# Altium footprint library BOARD_PFC.PcbLib: 1 footprints
Each footprint in its own frame and in the unit in brackets; x right, y up, seen from the top. Pads: shape width x height; smd on the part's side, far side on the other; paste and mask are expansions set on the pad; w line width, h text height; cw(c..) or ccw(c..) is an arc to the next point about the centre after c.
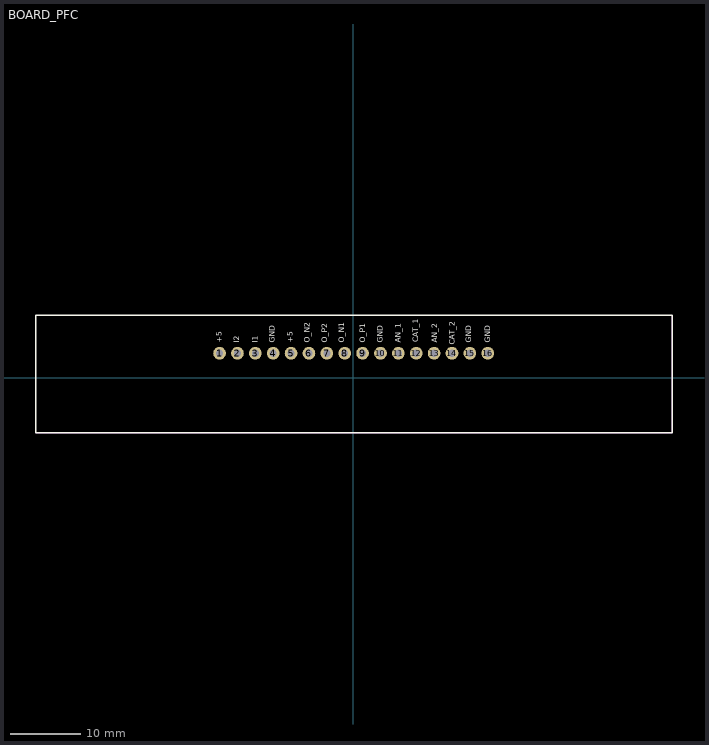
[diagram p0: the footprint, top view; thin cyan lines are the x and y axes]

## BOARD_PFC [mm]
height 0.55
pads (16):
  round 1.8 hole 1: 1(-19,3.5) 2(-16.46,3.5) 3(-13.92,3.5) 4(-11.38,3.5) 5(-8.84,3.5) 6(-6.3,3.5) 7(-3.76,3.5) 8(-1.22,3.5) 9(1.32,3.5) 10(3.86,3.5) 11(6.4,3.5) 12(8.94,3.5) 13(11.48,3.5) 14(14.02,3.5) 15(16.56,3.5) 16(19.1,3.5)
Top Overlay:
  lines w0.2: -45.1,-7.8 -45.1,8.9 45.3,8.9 45.3,-7.8 -45.1,-7.8
  text "I2" at -16.189,4.969 h0.8
  text "+5" at -18.663,4.969 h0.8
  text "+5" at -8.613,4.969 h0.8
  text "GND" at -11.139,4.969 h0.8
  text "GND" at 16.75,4.969 h0.8
  text "GND" at 19.425,4.969 h0.8
  text "GND" at 4.161,4.969 h0.8
  text "I1" at -13.564,4.969 h0.8
  text "O_N2" at -6.172,4.969 h0.8
  text "O_P2" at -3.695,4.969 h0.8
  text "O_P1" at 1.678,4.969 h0.8
  text "O_N1" at -1.263,4.969 h0.8
  text "CAT_1" at 9.239,5.043 h0.8
  text "AN_1" at 6.762,4.969 h0.8
  text "AN_2" at 11.912,4.969 h0.8
  text "CAT_2" at 14.389,4.693 h0.8
Top Assembly:
  lines w0.1: -45.1,-7.8 -45.1,8.9 45.3,8.9 45.3,-7.8 -45.1,-7.8
  text "'.Designator'" at -0.975,-0.35 h0.7
3D body "Rectifire_(PFC).step": height 75.28, standoff -1.12, extent -44.977,-7.85 45.127,8.9